# Altium schematic symbol library National.SchLib: 5 symbols
Pins are listed as number, name and electrical type; pins without a type are passive.

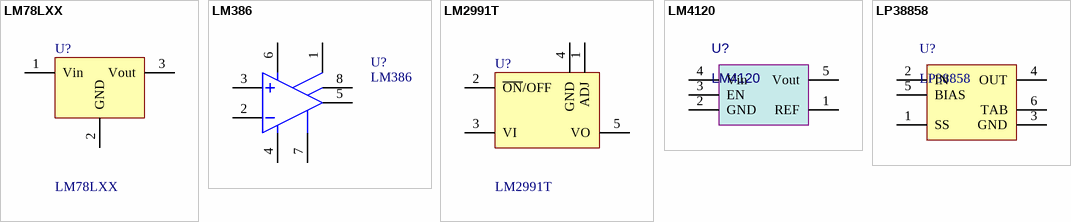
[diagram p0: symbols LM78LXX to LP38858]

## LM78LXX
designator U?
Value: LM78LXX
pins: 1 Vin, 2 GND, 3 Vout

## LM386
designator U?
Value: LM386
pins: 1 FIN COMPENSATIO, 2 MINUS INPUT, 3 PLUS INPUT, 4 MINUS V, 5 FOUT COMPENSATI, 6 OUTPUT, 7 PLUS V, 8 FIN COMPENSATIO
1 alternate drawing of the same symbol

## LM2991T
designator U?
Value: LM2991T
pins: 1 ADJ, 2 ~{ON}/OFF, 3 VI, 4 GND, 5 VO

## LM4120
designator U?
Value: LM4120
pins: 1 REF, 2 GND, 3 EN, 4 Vin, 5 Vout

## LP38858
designator U?
Value: LP38858
pins: 1 SS, 2 IN, 3 GND, 4 OUT, 5 BIAS, 6 TAB